# Altium footprint library Pin Header.PcbLib: 125 footprints (part 6 of 8)
Each footprint in its own frame and in the unit in brackets; x right, y up, seen from the top. Pads: shape width x height; smd on the part's side, far side on the other; paste and mask are expansions set on the pad; w line width, h text height; cw(c..) or ccw(c..) is an arc to the next point about the centre after c.
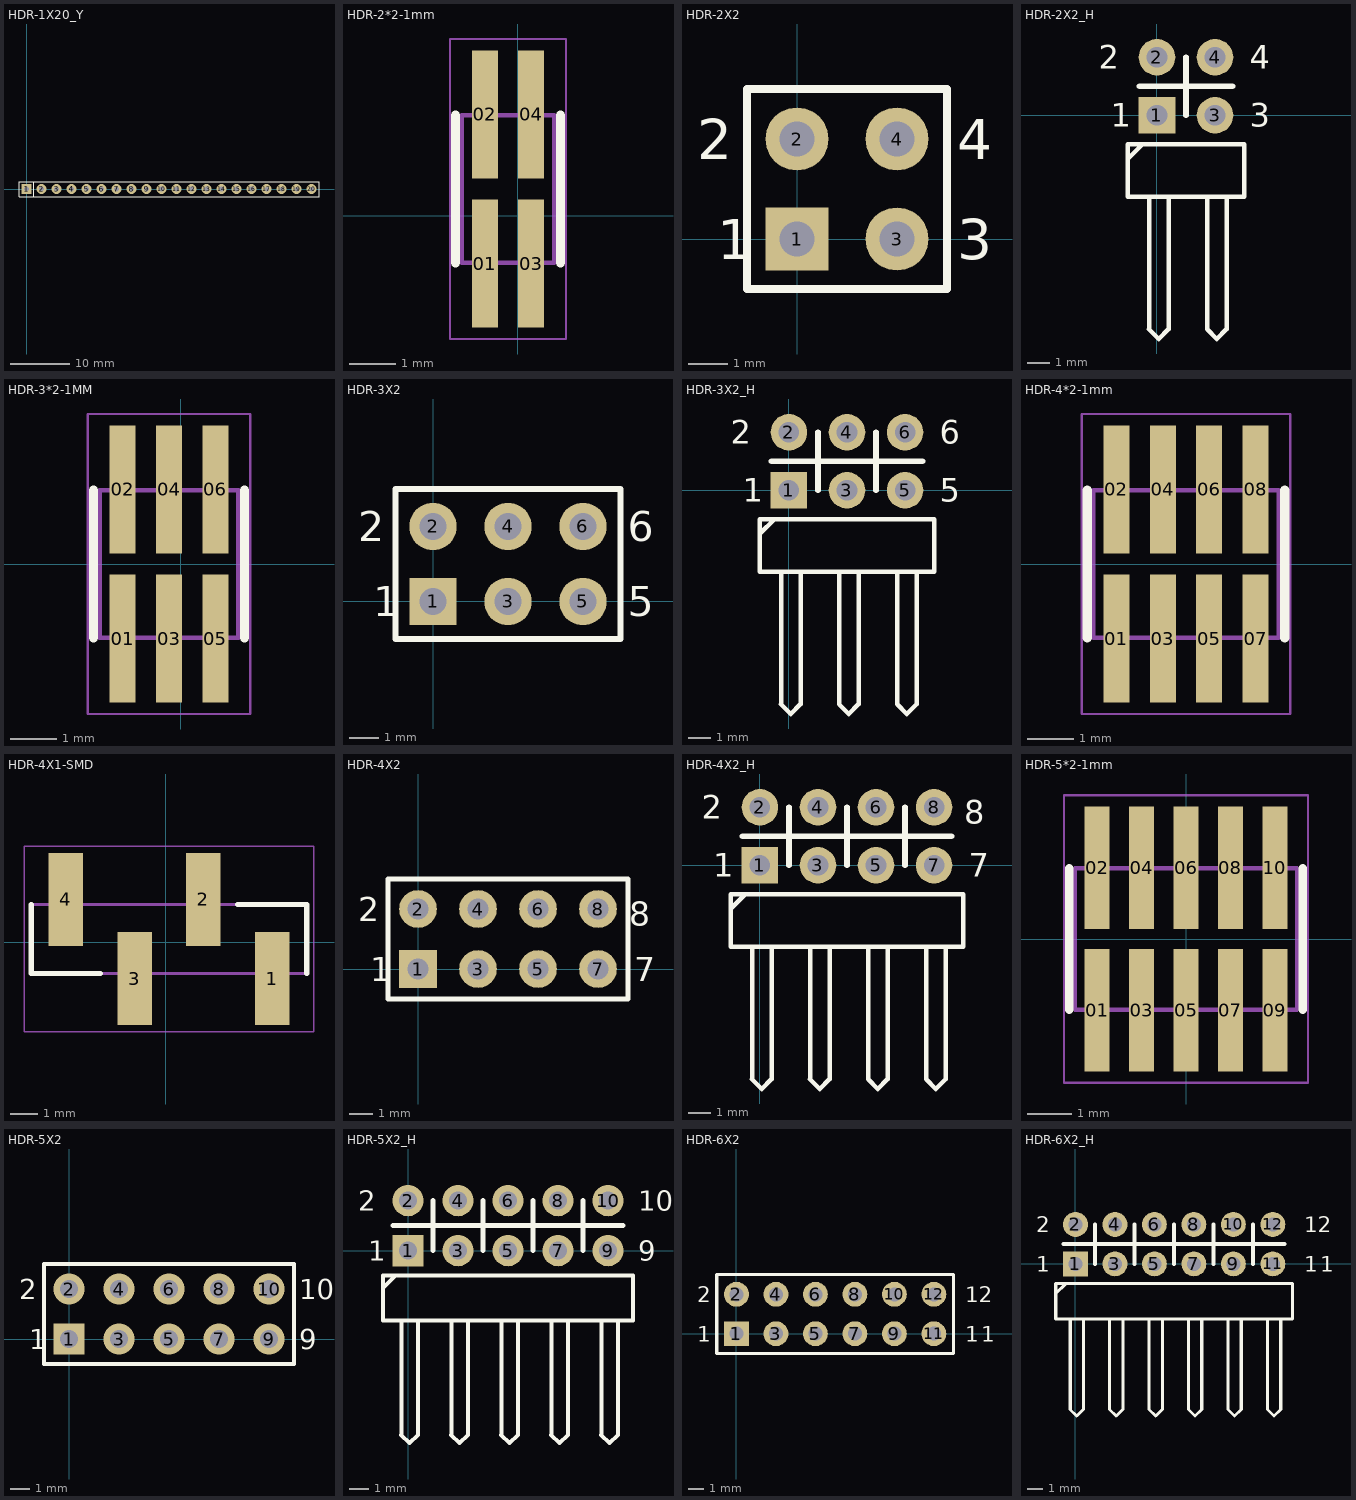
[diagram p5: the footprints below, top view; thin cyan lines are the x and y axes]

## HDR-1X20_Y [mm] "Ô²ï¿½ï¿½ï¿½ï¿½Ä¸ï¿½ï¿½20ï¿½ï¿½"
pads (20):
  rect 1.7x1.7 hole 0.9: 1(0,0)
  round 1.7 hole 0.9: 2(2.54,0) 3(5.08,0) 4(7.62,0) 5(10.16,0) 6(12.7,0) 7(15.24,0) 8(17.78,0) 9(20.32,0) 10(22.86,0) 11(25.4,0) 12(27.94,0) 13(30.48,0) 14(33.02,0) 15(35.56,0) 16(38.1,0)
  round 1.7 hole 0.762: 17(40.64,0) 18(43.18,0) 19(45.72,0) 20(48.26,0)
Top Overlay:
  lines w0.2: 1.25,-1.25 1.25,1.25 ; -1.27,-1.27 -1.27,1.27 0.635,1.27 49.53,1.27 49.53,-1.27 -1.27,-1.27
3D body "HDR-1P_Y.STEP": height 4.31, standoff -3, extent 46.99,-1.27 49.53,1.27
3D body "HDR-1P_Y.STEP": height 4.31, standoff -3, extent 44.45,-1.27 46.99,1.27
3D body "HDR-1P_Y.STEP": height 4.31, standoff -3, extent 41.91,-1.27 44.45,1.27
3D body "HDR-1P_Y.STEP": height 4.31, standoff -3, extent 39.37,-1.27 41.91,1.27
3D body "HDR-1P_Y.STEP": height 4.31, standoff -3, extent 36.83,-1.27 39.37,1.27
3D body "HDR-1P_Y.STEP": height 4.31, standoff -3, extent 34.29,-1.27 36.83,1.27
3D body "HDR-1P_Y.STEP": height 4.31, standoff -3, extent 31.75,-1.27 34.29,1.27
3D body "HDR-1P_Y.STEP": height 4.31, standoff -3, extent 29.21,-1.27 31.75,1.27
3D body "HDR-1P_Y.STEP": height 4.31, standoff -3, extent 26.67,-1.27 29.21,1.27
3D body "HDR-1P_Y.STEP": height 4.31, standoff -3, extent 24.13,-1.27 26.67,1.27
3D body "HDR-1P_Y.STEP": height 4.31, standoff -3, extent 21.59,-1.27 24.13,1.27
3D body "HDR-1P_Y.STEP": height 4.31, standoff -3, extent 19.05,-1.27 21.59,1.27
3D body "HDR-1P_Y.STEP": height 4.31, standoff -3, extent 16.51,-1.27 19.05,1.27
3D body "HDR-1P_Y.STEP": height 4.31, standoff -3, extent 13.97,-1.27 16.51,1.27
3D body "HDR-1P_Y.STEP": height 4.31, standoff -3, extent 11.43,-1.27 13.97,1.27
3D body "HDR-1P_Y.STEP": height 4.31, standoff -3, extent 8.89,-1.27 11.43,1.27
3D body "HDR-1P_Y.STEP": height 4.31, standoff -3, extent 6.35,-1.27 8.89,1.27
3D body "HDR-1P_Y.STEP": height 4.31, standoff -3, extent 3.81,-1.27 6.35,1.27
3D body "HDR-1P_Y.STEP": height 4.31, standoff -3, extent 1.27,-1.27 3.81,1.27
3D body "HDR-1P_Y.STEP": height 4.31, standoff -3, extent -1.27,-1.27 1.27,1.27

## HDR-2*2-1mm [mm]
pads (4):
  rect 0.56x2.755 smd: 01(-0.714,-1.026) 02(-0.714,2.189) 03(0.286,-1.026) 04(0.286,2.189)
Top Overlay:
  lines w0.2: -1.344,-1.008 -1.344,2.172 ; 0.916,-1.008 0.916,2.172
Mechanical 13:
  lines w0.1: -1.214,-1.008 -1.214,2.172 0.786,2.172 0.786,-1.008 -1.214,-1.008
Mechanical 15:
  lines w0.05: -1.464,-2.653 -1.464,3.817 1.036,3.817 1.036,-2.653 -1.464,-2.653
3D body "FTM-102-02-F-DV.stp": height 3.17, standoff 0, extent -1.254,-2.095 0.746,3.111

## HDR-2X2 [mm] "Ë«ï¿½ï¿½ï¿½ï¿½ï¿½ë£¬2x2ï¿½ï¿½"
pads (4):
  rect 1.6x1.6 hole 0.9: 1(0,0)
  round 1.6 hole 0.9: 2(0,2.54) 3(2.54,0) 4(2.54,2.54)
Top Overlay:
  lines w0.2: -1.27,-1.27 -1.27,3.81 3.81,3.81 3.81,-1.27 -1.27,-1.27
  text "1" at -2.032,-0.508 h1.02
  text "2" at -2.54,2.032 h1.02
  text "4" at 4.064,2.032 h1.02
  text "3" at 4.064,-0.508 h1.02
3D body "HDR2.54-1x2P.STEP": height 8.5, standoff -3, extent -1.27,-1.27 1.27,3.81
3D body "HDR2.54-1x2P.STEP": height 8.5, standoff -3, extent 1.27,-1.27 3.81,3.81

## HDR-2X2_H [mm] "Ë«ï¿½ï¿½ï¿½ï¿½ï¿½ï¿½ï¿½ï¿½ë£¬2x2ï¿½ï¿½"
pads (4):
  rect 1.6x1.6 hole 0.9: 1(0,0)
  round 1.6 hole 0.9: 2(0,2.54) 3(2.54,0) 4(2.54,2.54)
Top Overlay:
  lines w0.2: -1.27,-1.905 -0.635,-1.27 ; -0.348,-9.364 0.075,-9.787 0.499,-9.364 0.508,-9.355 0.508,-3.556 ; -0.339,-9.364 -0.339,-3.556 ; 2.192,-9.364 2.615,-9.787 3.039,-9.364 ; 2.201,-9.364 2.201,-3.556 ; 3.048,-9.364 3.048,-3.556 ; -1.27,-3.556 3.81,-3.556 3.81,-1.27 -1.27,-1.27 -1.27,-3.556
  lines w0.254: -0.762,1.27 3.302,1.27 ; 1.27,0 1.27,2.54
  text "1" at -2.032,-0.508 h1.02
  text "2" at -2.54,2.032 h1.02
  text "4" at 4.064,2.032 h1.02
  text "3" at 4.064,-0.508 h1.02
Bottom Overlay:
  lines w0.254: -0.762,1.27 3.302,1.27 ; 1.27,0 1.27,2.54
3D body "HDR-1x2_H.STEP": height 5.1, standoff -3, extent 1.27,-9.96 3.81,2.89
3D body "HDR-1x2_H.STEP": height 5.1, standoff -3, extent -1.27,-9.96 1.27,2.89

## HDR-3*2-1MM [mm]
pads (6):
  rect 0.56x2.755 smd: 01(-1.254,-1.607) 02(-1.254,1.607) 03(-0.254,-1.607) 04(-0.254,1.607) 05(0.746,-1.607) 06(0.746,1.607)
Top Overlay:
  lines w0.2: -1.884,-1.59 -1.884,1.59 ; 1.376,-1.59 1.376,1.59
Mechanical 13:
  lines w0.1: -1.754,-1.59 1.246,-1.59 1.246,1.59 -1.754,1.59 -1.754,-1.59
Mechanical 15:
  lines w0.05: -2.004,-3.235 1.496,-3.235 1.496,3.235 -2.004,3.235 -2.004,-3.235
3D body "FTM-103-02-F-DV.stp": height 3.17, standoff 0, extent -1.754,-2.603 1.246,2.603

## HDR-3X2 [mm] "Ë«ï¿½ï¿½ï¿½ï¿½ï¿½ë£¬3x2ï¿½ï¿½"
pads (6):
  rect 1.6x1.6 hole 0.9: 1(0,0)
  round 1.6 hole 0.9: 2(0,2.54) 3(2.54,0) 4(2.54,2.54) 5(5.08,0) 6(5.08,2.54)
Top Overlay:
  lines w0.2: 1.482,-1.27 6.35,-1.27 ; 6.35,-1.27 -1.27,-1.27 -1.27,3.81 6.35,3.81 6.35,-1.27
  text "1" at -2.032,-0.508 h1.02
  text "2" at -2.54,2.032 h1.02
  text "5" at 6.604,-0.508 h1.02
  text "6" at 6.604,2.032 h1.02
3D body "HDR2.54-1x2P.STEP": height 8.5, standoff -3, extent 1.27,-1.27 3.81,3.81
3D body "HDR2.54-1x2P.STEP": height 8.5, standoff -3, extent -1.27,-1.27 1.27,3.81
3D body "HDR2.54-1x2P.STEP": height 8.5, standoff -3, extent 3.81,-1.27 6.35,3.81

## HDR-3X2_H [mm] "Ë«ï¿½ï¿½ï¿½ï¿½ï¿½ï¿½ï¿½ï¿½ë£¬3x2ï¿½ï¿½"
pads (6):
  rect 1.6x1.6 hole 0.9: 1(0,0)
  round 1.6 hole 0.9: 2(0,2.54) 3(2.54,0) 4(2.54,2.54) 5(5.08,0) 6(5.08,2.54)
Top Overlay:
  lines w0.2: -1.27,-1.905 -0.635,-1.27 ; -0.348,-9.364 0.075,-9.787 0.499,-9.364 0.508,-9.355 0.508,-3.556 ; -0.339,-9.364 -0.339,-3.556 ; 2.192,-9.364 2.615,-9.787 3.039,-9.364 ; 2.201,-9.364 2.201,-3.556 ; 3.048,-9.364 3.048,-3.556 ; 4.732,-9.364 5.155,-9.787 5.579,-9.364 ; 4.741,-9.364 4.741,-3.556 ; 5.588,-9.364 5.588,-3.556 ; -1.27,-3.556 6.35,-3.556 6.35,-1.27 -1.27,-1.27 -1.27,-3.556
  lines w0.254: -0.762,1.27 5.842,1.27 ; 1.27,0 1.27,2.54 ; 3.81,0 3.81,2.54
  text "6" at 6.604,2.032 h1.02
  text "5" at 6.604,-0.508 h1.02
  text "2" at -2.54,2.032 h1.02
  text "1" at -2.032,-0.508 h1.02
Bottom Overlay:
  lines w0.254: -0.762,1.27 5.842,1.27 ; 1.27,0 1.27,2.54 ; 3.81,0 3.81,2.54
3D body "HDR-1x2_H.STEP": height 5.1, standoff -3, extent 1.27,-9.96 3.81,2.89
3D body "HDR-1x2_H.STEP": height 5.1, standoff -3, extent -1.27,-9.96 1.27,2.89
3D body "HDR-1x2_H.STEP": height 5.1, standoff -3, extent 3.81,-9.96 6.35,2.89

## HDR-4*2-1mm [mm]
pads (8):
  rect 0.56x2.755 smd: 01(-6.834,-1.607) 02(-6.834,1.607) 03(-5.834,-1.607) 04(-5.834,1.607) 05(-4.834,-1.607) 06(-4.834,1.607) 07(-3.834,-1.607) 08(-3.834,1.607)
Top Overlay:
  lines w0.2: -7.464,-1.59 -7.464,1.59 ; -3.204,-1.59 -3.204,1.59
Mechanical 13:
  lines w0.1: -7.334,-1.59 -3.334,-1.59 -3.334,1.59 -7.334,1.59 -7.334,-1.59
Mechanical 15:
  lines w0.05: -7.584,-3.235 -3.084,-3.235 -3.084,3.235 -7.584,3.235 -7.584,-3.235
3D body "FTM-104-02-F-DV.stp": height 3.17, standoff 0, extent -7.334,-2.603 -3.334,2.603

## HDR-4X1-SMD [mm]
pads (4):
  rect 1.27x3.43 smd: 1(3.937,-1.333) 2(1.397,1.587) 3(-1.143,-1.333) 4(-3.683,1.587)
Top Overlay:
  lines w0.2: -4.953,1.397 -4.953,-1.143 -2.413,-1.143 ; 2.667,1.397 5.207,1.397 5.207,-1.143
Mechanical 13:
  lines w0.1: -4.953,-1.143 -4.953,1.397 5.207,1.397 5.207,-1.143 -4.953,-1.143
Mechanical 15:
  lines w0.05: -5.203,-3.298 -5.203,3.552 5.457,3.552 5.457,-3.298 -5.203,-3.298
3D body "TSM-104-03-L-SV.stp": height 14.51, standoff 0.03, extent -4.826,-2.603 5.334,2.603

## HDR-4X2 [mm] "Ë«ï¿½ï¿½ï¿½ï¿½ï¿½ë£¬4x2ï¿½ï¿½"
pads (8):
  rect 1.6x1.6 hole 0.9: 1(0,0)
  round 1.6 hole 0.9: 2(0,2.54) 3(2.54,0) 4(2.54,2.54) 5(5.08,0) 6(5.08,2.54) 7(7.62,0) 8(7.62,2.54)
Top Overlay:
  lines w0.2: 1.482,-1.27 8.89,-1.27 8.89,3.81 -1.27,3.81 -1.27,-1.27 6.35,-1.27
  text "7" at 9.144,-0.508 h1.02
  text "8" at 8.941,1.829 h1.02
  text "2" at -2.54,2.032 h1.02
  text "1" at -2.032,-0.508 h1.02
3D body "HDR2.54-1x2P.STEP": height 8.5, standoff -3, extent 3.81,-1.27 6.35,3.81
3D body "HDR2.54-1x2P.STEP": height 8.5, standoff -3, extent 6.35,-1.27 8.89,3.81
3D body "HDR2.54-1x2P.STEP": height 8.5, standoff -3, extent -1.27,-1.27 1.27,3.81
3D body "HDR2.54-1x2P.STEP": height 8.5, standoff -3, extent 1.27,-1.27 3.81,3.81

## HDR-4X2_H [mm] "Ë«ï¿½ï¿½ï¿½ï¿½ï¿½ï¿½ï¿½ï¿½ë£¬4x2ï¿½ï¿½"
pads (8):
  rect 1.6x1.6 hole 0.9: 1(0,0)
  round 1.6 hole 0.9: 2(0,2.54) 3(2.54,0) 4(2.54,2.54) 5(5.08,0) 6(5.08,2.54) 7(7.62,0) 8(7.62,2.54)
Top Overlay:
  lines w0.2: -1.27,-1.905 -0.635,-1.27 ; -0.348,-9.364 0.075,-9.787 0.499,-9.364 0.508,-9.355 0.508,-3.556 ; -0.339,-9.364 -0.339,-3.556 ; 2.192,-9.364 2.615,-9.787 3.039,-9.364 ; 2.201,-9.364 2.201,-3.556 ; 3.048,-9.364 3.048,-3.556 ; 4.732,-9.364 5.155,-9.787 5.579,-9.364 ; 4.741,-9.364 4.741,-3.556 ; 5.588,-9.364 5.588,-3.556 ; 7.272,-9.364 7.695,-9.787 8.119,-9.364 ; 7.281,-9.364 7.281,-3.556 ; 8.128,-9.364 8.128,-3.556 ; -1.27,-3.556 8.89,-3.556 8.89,-1.27 -1.27,-1.27 -1.27,-3.556
  lines w0.254: -0.762,1.27 8.382,1.27 ; 1.27,0 1.27,2.54 ; 3.81,0 3.81,2.54 ; 6.35,0 6.35,2.54
  text "7" at 9.144,-0.508 h1.02
  text "8" at 8.941,1.829 h1.02
  text "2" at -2.54,2.032 h1.02
  text "1" at -2.032,-0.508 h1.02
Bottom Overlay:
  lines w0.254: -0.762,1.27 8.382,1.27 ; 1.27,0 1.27,2.54 ; 3.81,0 3.81,2.54 ; 6.35,0 6.35,2.54
3D body "HDR-1x2_H.STEP": height 5.1, standoff -3, extent 3.81,-9.96 6.35,2.89
3D body "HDR-1x2_H.STEP": height 5.1, standoff -3, extent 6.35,-9.96 8.89,2.89
3D body "HDR-1x2_H.STEP": height 5.1, standoff -3, extent -1.27,-9.96 1.27,2.89
3D body "HDR-1x2_H.STEP": height 5.1, standoff -3, extent 1.27,-9.96 3.81,2.89

## HDR-5*2-1mm [mm]
pads (10):
  rect 0.56x2.755 smd: 01(-2,-1.607) 02(-2,1.607) 03(-1,-1.607) 04(-1,1.607) 05(0,-1.607) 06(0,1.607) 07(1,-1.607) 08(1,1.607) 09(2,-1.607) 10(2,1.607)
Top Overlay:
  lines w0.2: -2.63,-1.59 -2.63,1.59 ; 2.63,-1.59 2.63,1.59
Mechanical 13:
  lines w0.1: -2.5,-1.59 -2.5,1.59 2.5,1.59 2.5,-1.59 -2.5,-1.59
Mechanical 15:
  lines w0.05: -2.75,-3.235 -2.75,3.235 2.75,3.235 2.75,-3.235 -2.75,-3.235
3D body "FTM-105-02-F-DV.stp": height 3.17, standoff 0, extent -2.5,-2.603 2.5,2.603

## HDR-5X2 [mm] "Ë«ï¿½ï¿½ï¿½ï¿½ï¿½ë£¬5x2ï¿½ï¿½"
pads (10):
  rect 1.6x1.6 hole 0.9: 1(0,0)
  round 1.6 hole 0.9: 2(0,2.54) 3(2.54,0) 4(2.54,2.54) 5(5.08,0) 6(5.08,2.54) 7(7.62,0) 8(7.62,2.54) 9(10.16,0) 10(10.16,2.54)
Top Overlay:
  lines w0.2: -1.27,-1.27 11.43,-1.27 11.43,3.81 -1.27,3.81 -1.27,-1.27
  text "10" at 11.684,2.032 h1.02
  text "9" at 11.684,-0.508 h1.02
  text "1" at -2.032,-0.508 h1.02
  text "2" at -2.54,2.032 h1.02
3D body "HDR2.54-1x2P.STEP": height 8.5, standoff -3, extent 8.89,-1.27 11.43,3.81
3D body "HDR2.54-1x2P.STEP": height 8.5, standoff -3, extent 1.27,-1.27 3.81,3.81
3D body "HDR2.54-1x2P.STEP": height 8.5, standoff -3, extent -1.27,-1.27 1.27,3.81
3D body "HDR2.54-1x2P.STEP": height 8.5, standoff -3, extent 6.35,-1.27 8.89,3.81
3D body "HDR2.54-1x2P.STEP": height 8.5, standoff -3, extent 3.81,-1.27 6.35,3.81

## HDR-5X2_H [mm] "Ë«ï¿½ï¿½ï¿½ï¿½ï¿½ï¿½ï¿½ï¿½ë£¬5x2ï¿½ï¿½"
pads (10):
  rect 1.6x1.6 hole 0.9: 1(0,0)
  round 1.6 hole 0.9: 2(0,2.54) 3(2.54,0) 4(2.54,2.54) 5(5.08,0) 6(5.08,2.54) 7(7.62,0) 8(7.62,2.54) 9(10.16,0) 10(10.16,2.54)
Top Overlay:
  lines w0.2: -1.27,-1.905 -0.635,-1.27 ; -0.348,-9.364 0.075,-9.787 0.499,-9.364 0.508,-9.355 0.508,-3.556 ; -0.339,-9.364 -0.339,-3.556 ; 2.192,-9.364 2.615,-9.787 3.039,-9.364 ; 2.201,-9.364 2.201,-3.556 ; 3.048,-9.364 3.048,-3.556 ; 4.732,-9.364 5.155,-9.787 5.579,-9.364 ; 4.741,-9.364 4.741,-3.556 ; 5.588,-9.364 5.588,-3.556 ; 7.272,-9.364 7.695,-9.787 8.119,-9.364 ; 7.281,-9.364 7.281,-3.556 ; 8.128,-9.364 8.128,-3.556 ; 9.812,-9.364 10.235,-9.787 10.659,-9.364 ; 9.821,-9.364 9.821,-3.556 ; 10.668,-9.364 10.668,-3.556 ; -1.27,-3.556 -1.27,-1.27 11.43,-1.27 11.43,-3.556 -1.27,-3.556
  lines w0.254: -0.762,1.27 10.922,1.27 ; 1.27,0 1.27,2.54 ; 3.81,0 3.81,2.54 ; 6.35,0 6.35,2.54 ; 8.89,0 8.89,2.54
  text "10" at 11.684,2.032 h1.02
  text "9" at 11.684,-0.508 h1.02
  text "1" at -2.032,-0.508 h1.02
  text "2" at -2.54,2.032 h1.02
Bottom Overlay:
  lines w0.254: -0.762,1.27 10.922,1.27 ; 1.27,0 1.27,2.54 ; 3.81,0 3.81,2.54 ; 6.35,0 6.35,2.54 ; 8.89,0 8.89,2.54
3D body "HDR-1x2_H.STEP": height 5.1, standoff -3, extent 1.27,-9.96 3.81,2.89
3D body "HDR-1x2_H.STEP": height 5.1, standoff -3, extent -1.27,-9.96 1.27,2.89
3D body "HDR-1x2_H.STEP": height 5.1, standoff -3, extent 6.35,-9.96 8.89,2.89
3D body "HDR-1x2_H.STEP": height 5.1, standoff -3, extent 3.81,-9.96 6.35,2.89
3D body "HDR-1x2_H.STEP": height 5.1, standoff -3, extent 8.89,-9.96 11.43,2.89

## HDR-6X2 [mm] "Ë«ï¿½ï¿½ï¿½ï¿½ï¿½ë£¬6x2ï¿½ï¿½"
pads (12):
  rect 1.6x1.6 hole 0.9: 1(0,0)
  round 1.6 hole 0.9: 2(0,2.54) 3(2.54,0) 4(2.54,2.54) 5(5.08,0) 6(5.08,2.54) 7(7.62,0) 8(7.62,2.54) 9(10.16,0) 10(10.16,2.54) 11(12.7,0) 12(12.7,2.54)
Top Overlay:
  lines w0.2: -1.27,-1.27 13.97,-1.27 13.97,3.81 -1.27,3.81 -1.27,-1.27
  text "12" at 14.732,2.032 h1.02
  text "1" at 15.748,-0.508 h1.02
  text "1" at 14.732,-0.508 h1.02
  text "1" at -2.54,-0.508 h1.02
  text "2" at -2.54,2.032 h1.02
3D body "HDR2.54-1x2P.STEP": height 8.5, standoff -3, extent 8.89,-1.27 11.43,3.81
3D body "HDR2.54-1x2P.STEP": height 8.5, standoff -3, extent 1.27,-1.27 3.81,3.81
3D body "HDR2.54-1x2P.STEP": height 8.5, standoff -3, extent -1.27,-1.27 1.27,3.81
3D body "HDR2.54-1x2P.STEP": height 8.5, standoff -3, extent 6.35,-1.27 8.89,3.81
3D body "HDR2.54-1x2P.STEP": height 8.5, standoff -3, extent 3.81,-1.27 6.35,3.81
3D body "HDR2.54-1x2P.STEP": height 8.5, standoff -3, extent 11.43,-1.27 13.97,3.81

## HDR-6X2_H [mm] "Ë«ï¿½ï¿½ï¿½ï¿½ï¿½ï¿½ï¿½ï¿½ë£¬6x2ï¿½ï¿½"
pads (12):
  rect 1.6x1.6 hole 0.9: 1(0,0)
  round 1.6 hole 0.9: 2(0,2.54) 3(2.54,0) 4(2.54,2.54) 5(5.08,0) 6(5.08,2.54) 7(7.62,0) 8(7.62,2.54) 9(10.16,0) 10(10.16,2.54) 11(12.7,0) 12(12.7,2.54)
Top Overlay:
  lines w0.2: -1.27,-1.905 -0.635,-1.27 ; -0.348,-9.364 0.075,-9.787 0.499,-9.364 0.508,-9.355 0.508,-3.556 ; -0.339,-9.364 -0.339,-3.556 ; 2.192,-9.364 2.615,-9.787 3.039,-9.364 ; 2.201,-9.364 2.201,-3.556 ; 3.048,-9.364 3.048,-3.556 ; 4.732,-9.364 5.155,-9.787 5.579,-9.364 ; 4.741,-9.364 4.741,-3.556 ; 5.588,-9.364 5.588,-3.556 ; 7.272,-9.364 7.695,-9.787 8.119,-9.364 ; 7.281,-9.364 7.281,-3.556 ; 8.128,-9.364 8.128,-3.556 ; 9.812,-9.364 10.235,-9.787 10.659,-9.364 ; 9.821,-9.364 9.821,-3.556 ; 10.668,-9.364 10.668,-3.556 ; 12.352,-9.364 12.775,-9.787 13.199,-9.364 ; 12.361,-9.364 12.361,-3.556 ; 13.208,-9.364 13.208,-3.556 ; -1.27,-3.556 -1.27,-1.27 13.97,-1.27 13.97,-3.556 -1.27,-3.556
  lines w0.254: -0.762,1.27 13.462,1.27 ; 1.27,0 1.27,2.54 ; 3.81,0 3.81,2.54 ; 6.35,0 6.35,2.54 ; 8.89,0 8.89,2.54 ; 11.43,0 11.43,2.54
  text "2" at -2.54,2.032 h1.02
  text "1" at -2.54,-0.508 h1.02
  text "1" at 14.732,-0.508 h1.02
  text "1" at 15.748,-0.508 h1.02
  text "12" at 14.732,2.032 h1.02
Bottom Overlay:
  lines w0.254: -0.762,1.27 13.462,1.27 ; 1.27,0 1.27,2.54 ; 3.81,0 3.81,2.54 ; 6.35,0 6.35,2.54 ; 8.89,0 8.89,2.54 ; 11.43,0 11.43,2.54
3D body "HDR-1x2_H.STEP": height 5.1, standoff -3, extent 11.43,-9.96 13.97,2.89
3D body "HDR-1x2_H.STEP": height 5.1, standoff -3, extent 1.27,-9.96 3.81,2.89
3D body "HDR-1x2_H.STEP": height 5.1, standoff -3, extent -1.27,-9.96 1.27,2.89
3D body "HDR-1x2_H.STEP": height 5.1, standoff -3, extent 6.35,-9.96 8.89,2.89
3D body "HDR-1x2_H.STEP": height 5.1, standoff -3, extent 3.81,-9.96 6.35,2.89
3D body "HDR-1x2_H.STEP": height 5.1, standoff -3, extent 8.89,-9.96 11.43,2.89